# Altium schematic symbol library MFG240160-3-E.SchLib: 1 symbol
Pins are listed as number, name and electrical type; pins without a type are passive.

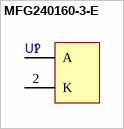
[diagram p0: symbol MFG240160-3-E]

## MFG240160-3-E
designator U?  (value not drawn)
pins: 1 A, 2 K